# Altium footprint library SOIC127P600X190-8N.PcbLib: 1 footprints
Each footprint in its own frame and in the unit in brackets; x right, y up, seen from the top. Pads: shape width x height; smd on the part's side, far side on the other; paste and mask are expansions set on the pad; w line width, h text height; cw(c..) or ccw(c..) is an arc to the next point about the centre after c.
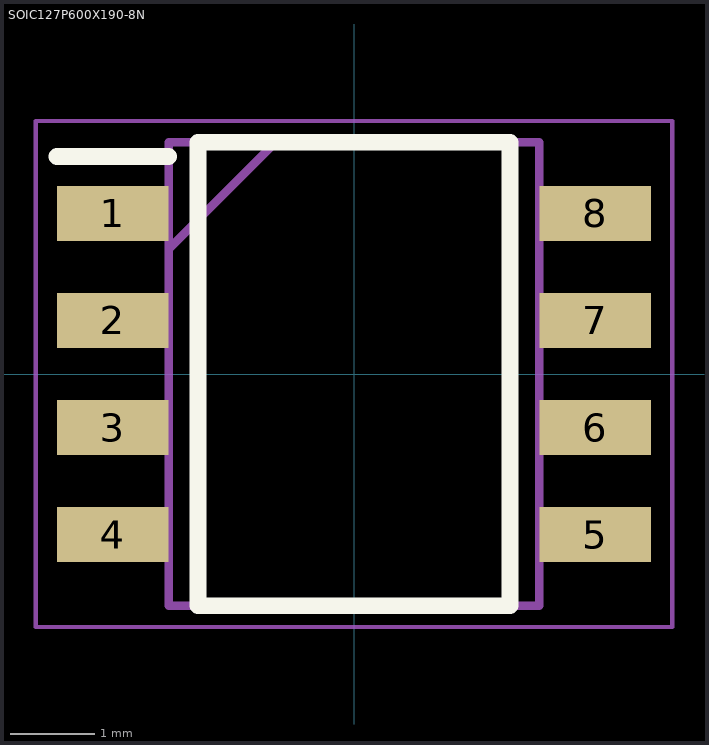
[diagram p0: the footprint, top view; thin cyan lines are the x and y axes]

## SOIC127P600X190-8N [mm]
pads (8):
  rect 1.325x0.65 smd: 1(-2.862,1.905) 2(-2.862,0.635) 3(-2.862,-0.635) 4(-2.862,-1.905) 5(2.862,-1.905) 6(2.862,-0.635) 7(2.862,0.635) 8(2.862,1.905)
Top Overlay:
  lines w0.2: -3.525,2.58 -2.2,2.58 ; -1.85,-2.75 1.85,-2.75 1.85,2.75 -1.85,2.75 -1.85,-2.75
Mechanical 15:
  lines w0.1: -2.2,1.48 -0.93,2.75 ; -2.2,-2.75 2.2,-2.75 2.2,2.75 -2.2,2.75 -2.2,-2.75
Mechanical 20:
  lines w0.05: -3.775,-3 3.775,-3 3.775,3 -3.775,3 -3.775,-3